# Altium footprint library LTST-C19HE1WT.PcbLib: 2 footprints
Each footprint in its own frame and in the unit in brackets; x right, y up, seen from the top. Pads: shape width x height; smd on the part's side, far side on the other; paste and mask are expansions set on the pad; w line width, h text height; cw(c..) or ccw(c..) is an arc to the next point about the centre after c.
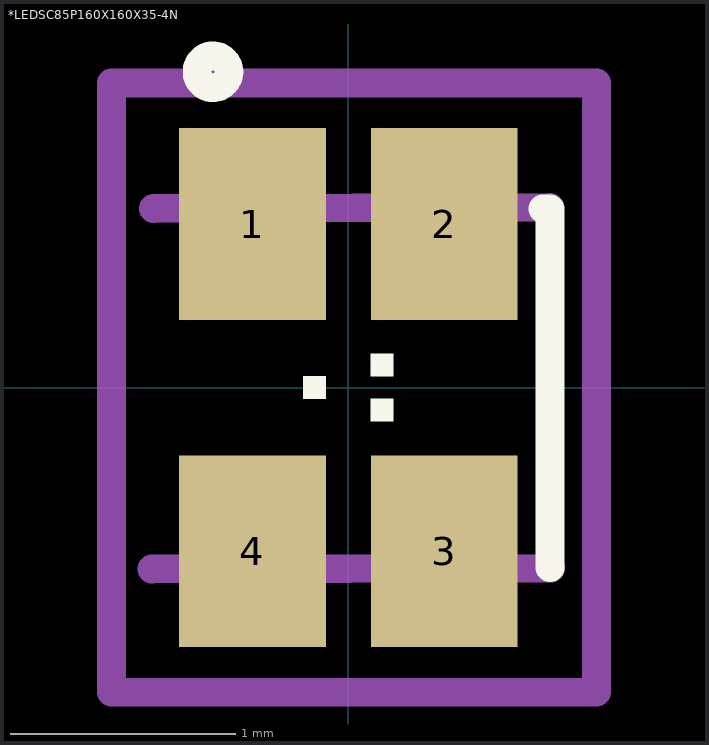
[diagram p0: the footprints below, top view; thin cyan lines are the x and y axes]

## *LEDSC85P160X160X35-4N [mm]
pads (4):
  rect 0.65x0.85 smd: 1(-0.425,0.725) 2(0.425,0.725) 3(0.425,-0.725) 4(-0.425,-0.725)
Top Overlay:
  circle w0.127: c-0.6,1.4 r0.071
  region: 0.1,-0.05 0.2,-0.05 0.2,-0.15 0.1,-0.15
  region: 0.1,0.15 0.2,0.15 0.2,0.05 0.1,0.05
  region: -0.2,0.05 -0.1,0.05 -0.1,-0.05 -0.2,-0.05
  lines w0.127: 0.861,0.793 0.894,0.793 0.894,-0.799
Mechanical 4:
  lines w0.127: -0.871,-0.804 0.897,-0.8 -0.871,-0.804 ; -0.864,0.794 0.893,0.8 -0.864,0.794
Mechanical 16:
  lines w0.127: -1.05,-1.35 -1.05,1.35 1.1,1.35 1.1,-1.35 -1.05,-1.35

## PCBComponent_1 [mm]